# EAGLE library part TPS61165DRVT (library minibox-parts)
High Brightness White LED Driver in 2mm x 2mm QFN and SOT-23 Packages
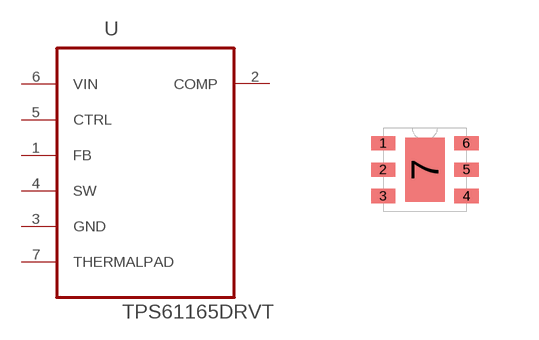
[diagram p6: symbol with the pads of SON65P210X210X80-7N; footprint SON65P210X210X80-7N]

Designator prefix U

## TPS61165DRVT (MPN: TPS61165DRVT; OC_FARNELL: 1755590; OC_NEWARK: 78M6640; PACKAGE: SON-6; SUPPLIER: Texas Instruments)  [SON65P210X210X80-7N]
1  FB  in
2  COMP  out
3  GND  pas
4  SW  in
5  CTRL  in
6  VIN  pwr
7  THERMALPAD  pas

## Footprint SON65P210X210X80-7N (pad centres in mm)
smd 0.61 x 0.356: 1 -1.041,0.66; 2 -1.041,0; 3 -1.041,-0.66; 4 1.041,-0.66; 5 1.041,0; 6 1.041,0.66
smd 0.991 x 1.6: 7 0,0